# Altium footprint library LPSON_CON.PcbLib: 86 footprints (part 1 of 6)
Each footprint in its own frame and in the unit in brackets; x right, y up, seen from the top. Pads: shape width x height; smd on the part's side, far side on the other; paste and mask are expansions set on the pad; w line width, h text height; cw(c..) or ccw(c..) is an arc to the next point about the centre after c.
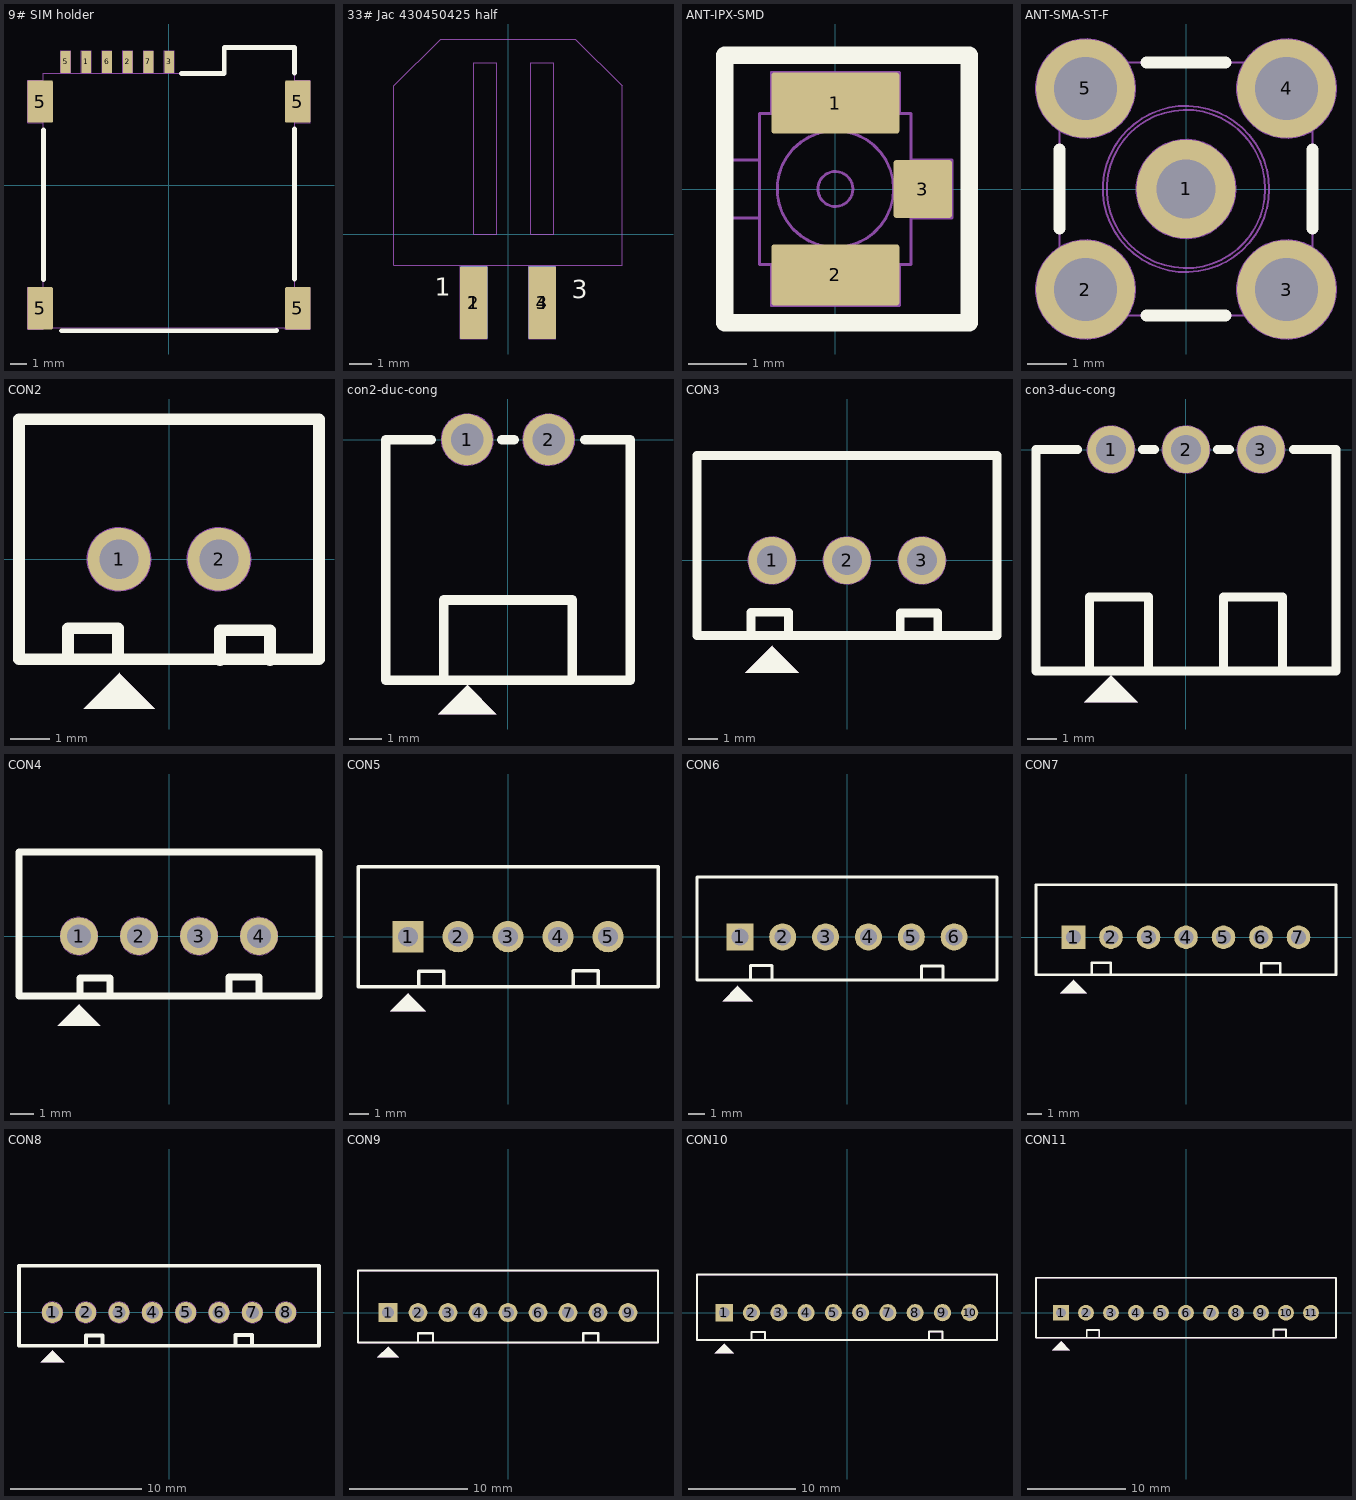
[diagram p0: the footprints below, top view; thin cyan lines are the x and y axes]

## 9# SIM holder [mm] "Micro SIM Push Connector SIM Card Connector with 6 Pin 1.35H"
height 1.35
pads (10):
  rrect10% 0.6x1.35 smd mask+0.1: 1(-5.07,7.553) 2(-2.53,7.553) 3(0.01,7.553) 5(-6.34,7.553) 6(-3.8,7.553) 7(-1.26,7.553)
  rrect10% 1.55x2.6 smd mask+0.1: 5(-7.9,-7.553) 5(-7.9,5.127) 5(7.9,-7.553) 5(7.9,5.127)
Top Overlay:
  lines w0.3: -7.7,-5.79 -7.7,3.4 ; -6.594,-8.934 6.596,-8.924 ; 0.75,6.85 3.39,6.85 3.39,8.45 7.7,8.45 7.7,6.87 ; 7.7,-5.76 7.7,3.45
Mechanical 2:
  lines w0.05: -7.7,-8.852 -8.675,-8.852 ; -7.7,-8.847 -7.7,-8.74 ; -7.7,-6.252 -8.675,-6.252 ; -7.7,3.828 -8.675,3.828 -8.675,6.428 -7.7,6.428 ; -5.37,6.86 -5.37,8.228 -4.77,8.228 -4.77,6.86 ; -4.1,6.86 -4.1,8.228 -3.5,8.228 -3.5,6.86 ; -2.83,6.86 -2.83,8.228 -2.23,8.228 -2.23,6.86 ; -1.56,6.86 -1.56,8.228 -0.96,8.228 -0.96,6.86 ; -0.29,6.86 -0.29,8.228 0.31,8.228 0.31,6.86 ; 7.125,-8.74 7.125,-8.852 8.675,-8.852 8.675,-6.252 7.7,-6.252 ; 7.7,3.828 8.675,3.828 8.675,6.428 7.7,6.428 ; -8.675,-8.852 -8.675,-6.252 ; -8.675,-8.852 -8.675,-6.252 ; -8.675,-8.852 -8.675,-6.252 ; -7.7,-8.74 7.7,-8.74 7.7,8.46 3.39,8.46 3.39,6.86 -7.7,6.86 -7.7,-8.74 ; -6.64,6.86 -6.64,8.228 ; -6.64,6.86 -6.64,8.228 ; -6.64,6.86 -6.04,6.86 ; -6.64,8.228 -6.04,8.228 ; -6.64,8.228 -6.04,8.228 ; -6.04,6.86 -6.04,8.228 ; -6.04,6.86 -6.04,8.228
  text "GND" at 8.371,4.742 h0.3
  text "GND" at 8.371,-7.86 h0.3
  text "GND" at -8.063,-7.86 h0.3
  text "GND" at -8.063,4.742 h0.3
  text "5" at -6.44,7.337 h0.3
  text "3" at -0.075,7.332 h0.3
  text "7" at -1.32,7.33 h0.3
  text "2" at -2.619,7.333 h0.3
  text "6" at -3.91,7.332 h0.3
  text "1" at -5.13,7.33 h0.3
3D body "User Library-Sim Holder.step": height 1.35, standoff 0, extent -8.2,-8.9 8.2,8.3

## 33# Jac 430450425 half [mm]
pads (4):
  rrect10% 1.2x3.18 smd: 1(-1.5,-3) 3(1.5,-3)
  rrect10% 1.2x3.18 smd far side: 2(-1.5,-3) 4(1.5,-3)
Top Overlay:
  text "3" at 2.8,-2.8 h0.8
  text "1" at -3.2,-2.7 h0.8
Bottom Overlay:
  text "4" at 3.36,-2.82 h0.8
  text "2" at -2.888,-2.69 h0.8
Mechanical 2:
  lines w0.05: -5,0 -5,-1.35 ; -5,-1.35 -3.69,-1.35 ; -5,-1.35 -5,-0.04 ; -5,-1.35 -3.69,-1.35 ; -5,-0.04 -5,6.5 ; -5,-0.04 -5,6.5 ; -5,-0.04 -5,6.5 ; -5,-0.04 -5,6.5 ; -5,6.5 -2.95,8.55 ; -5,6.5 -2.95,8.55 ; -5,6.5 -2.95,8.55 ; -5,6.5 -2.95,8.55 ; -3.69,-1.35 3.68,-1.35 ; -3.69,-1.35 3.68,-1.35 ; -3.69,-1.35 3.68,-1.35 ; -3.69,-1.35 3.68,-1.35 ; -2.95,8.55 2.95,8.55 ; -2.95,8.55 2.95,8.55 ; -2.95,8.55 2.95,8.55 ; -2.95,8.55 2.95,8.55 ; -2.1,-4.59 -0.91,-4.59 ; -2.1,-4.59 -0.91,-4.59 ; -2.1,-4.59 -2.1,-1.35 ; -2.1,-4.59 -2.1,-1.35 ; -2.1,-4.59 -2.1,-1.35 ; -2.1,-4.59 -0.91,-4.59 ; -2.1,-4.59 -0.91,-4.59 ; -2.1,-4.59 -2.1,-1.35 ; -1.5,0 -1.5,7.5 ; -1.5,0 -1.5,7.5 ; -1.5,0 -0.5,0 ; -1.5,0 -0.5,0 ; -1.5,0 -1.5,7.5 ; -1.5,0 -0.5,0 ; -1.5,0 -0.5,0 ; -1.5,0 -1.5,7.5 ; -1.5,7.5 -0.5,7.5 ; -1.5,7.5 -0.5,7.5 ; -1.5,7.5 -0.5,7.5 ; -1.5,7.5 -0.5,7.5 ; -0.91,-4.59 -0.91,-1.35 ; -0.91,-4.59 -0.91,-1.35 ; -0.91,-4.59 -0.91,-1.35 ; -0.91,-4.59 -0.91,-1.35 ; -0.5,0 -0.5,7.5 ; -0.5,0 -0.5,7.5 ; -0.5,0 -0.5,7.5 ; -0.5,0 -0.5,7.5 ; 0.9,-4.59 2.09,-4.59 ; 0.9,-4.59 2.09,-4.59 ; 0.9,-4.59 0.9,-1.35 ; 0.9,-4.59 0.9,-1.35 ; 0.9,-4.59 2.09,-4.59 ; 0.9,-4.59 0.9,-1.35 ; 0.9,-4.59 0.9,-1.35 ; 0.9,-4.59 2.09,-4.59 ; 1,0 1,7.5 ; 1,0 1,7.5 ; 1,0 2,0 ; 1,0 2,0 ; 1,0 2,0 ; 1,0 1,7.5 ; 1,0 1,7.5 ; 1,0 2,0 ; 1,7.5 2,7.5 ; 1,7.5 2,7.5 ; 1,7.5 2,7.5 ; 1,7.5 2,7.5 ; 2,0 2,7.5 ; 2,0 2,7.5 ; 2,0 2,7.5 ; 2,0 2,7.5 ; 2.09,-4.59 2.09,-1.35 ; 2.09,-4.59 2.09,-1.35 ; 2.09,-4.59 2.09,-1.35 ; 2.09,-4.59 2.09,-1.35 ; 2.95,8.55 5,6.5 ; 2.95,8.55 5,6.5 ; 2.95,8.55 5,6.5 ; 2.95,8.55 5,6.5 ; 3.68,-1.35 5,-1.35 ; 3.68,-1.35 5,-1.35 ; 5,-1.35 5,-0.03 ; 5,-1.35 5,-0.03 ; 5,-0.03 5,6.5 ; 5,-0.03 5,6.5 ; 5,-0.03 5,6.5 ; 5,-0.03 5,6.5
  text "4" at 1.3,-1.1 h0.8
  text "2" at -1.8,-1.1 h0.8
  text "1" at -1.6,-1.1 h0.8
  text "3" at 1.3,-1.1 h0.8
  text "3" at 1.3,-1.1 h0.8
  text "1" at -1.6,-1.1 h0.8
3D body "430450425.stp": height 3.24, standoff -5.53, extent -5.075,-4.84 5.075,8.25

## ANT-IPX-SMD [mm] "0­6GHz GSM,  GPRS & CDMA mobile Phones"
height 1.25
pads (3):
  rrect10% 2.2x1.05 smd mask+0.1: 1(0,1.475) 2(0,-1.475)
  rrect10% 1x1 smd mask+0.1: 3(1.5,0)
Top Overlay:
  lines w0.3: -1.9,-2.3 -1.9,2.3 2.3,2.3 2.3,-2.3 -1.9,-2.3
Mechanical 1:
  circle w0.05: c0,0 r0.3
  circle w0.05: c0,0 r1
  lines w0.05: -1.3,-0.5 -1.8,-0.5 -1.8,0.5 -1.3,0.5 ; -1.3,-1.295 -1.3,1.295 1.3,1.295 1.3,-1.295 -1.3,-1.295 ; -1.1,-2 1.1,-2 1.1,-1.295 -1.1,-1.295 -1.1,-2 ; -1.1,1.295 -1.1,2 1.1,2 1.1,1.295 -1.1,1.295 ; 1.3,-0.5 1.3,0.5 2,0.5 2,-0.5 1.3,-0.5
  text "ANT?" at 0,0 h0.5

## ANT-SMA-ST-F [mm] "SMA Straight PCB Female Connector 50 ohm"
height 9.5
pads (5):
  round 2.5 hole 1.5 mask+0.1: 1(0,0)
  round 2.5 hole 1.6 mask+0.1: 2(-2.54,-2.54) 3(2.54,-2.54) 4(2.54,2.54) 5(-2.54,2.54)
Top Overlay:
  lines w0.3: -3.2,-1 -3.2,1 ; -1,-3.2 1,-3.2 ; -1,3.2 1,3.2 ; 3.2,-1 3.2,1
Mechanical 2:
  circle w0.05: c0,0 r2
  circle w0.05: c0,0 r2.1
  circle w0.05: c0,0 r1.25
  circle w0.05: c0,0 r0.5
  circle w0.05: c2.54,2.54 r1.25
  circle w0.05: c2.54,-2.54 r1.25
  circle w0.05: c-2.54,2.54 r1.25
  circle w0.05: c-2.54,-2.54 r1.25
  lines w0.05: -3.2,-3.2 3.2,-3.2 3.2,3.2 -3.2,3.2 -3.2,-3.2
3D body "r125426000.stp": height 11.93, standoff -1.69, extent -3.2,-3.155 3.11,3.155

## CON2 [mm] "CON2"
height 5.08
pads (2):
  round 1.6 hole 1 mask+0.1: 1(-1.27,0) 2(1.27,0)
Top Overlay:
  region: -2.172,-3.797 -0.368,-3.797 -1.257,-2.908 -1.257,-2.883
  lines w0.3: -2.565,-2.515 -2.565,-1.753 -1.295,-1.753 -1.295,-2.515 ; 1.295,-2.565 1.295,-1.803 2.565,-1.803 2.565,-2.565 ; -3.81,-2.54 3.81,-2.54 3.81,3.556 -3.81,3.556 -3.81,-2.54
Mechanical 2:
  circle w0.05: c1.27,0 r0.8
  circle w0.05: c-1.27,0 r0.8
  region: -2.172,-3.797 -0.368,-3.797 -1.257,-2.908 -1.257,-2.883
  lines w0.05: -2.565,-2.515 -2.565,-1.753 -1.295,-1.753 -1.295,-2.515 ; 1.295,-2.565 1.295,-1.803 2.565,-1.803 2.565,-2.565 ; -3.81,-2.54 -3.81,3.556 3.81,3.556 3.81,-2.54 -3.81,-2.54
  text "1" at -1.4,-0.5 h1
  text "2" at 1,-0.5 h1
3D body "User Library-PW10_2.step": height 7, standoff -3.3, extent -3.75,-2.286 3.75,3.414

## con2-duc-cong [mm]
pads (2):
  round 1.6 hole 1 mask+0.1: 1(-1.27,0) 2(1.27,0)
Top Overlay:
  region: -2.172,-8.553 -0.368,-8.553 -1.257,-7.664 -1.257,-7.639
  lines w0.3: -2.4,0 -3.81,0 -3.81,-7.5 3.81,-7.5 3.81,0 2.4,0 ; -2,-7.5 -2,-5 2,-5 2,-7.5 ; -0.2,0 0.2,0
Mechanical 2:
  circle w0.05: c1.27,0 r0.8
  circle w0.05: c-1.27,0 r0.8
  region: -2.172,-8.553 -0.368,-8.553 -1.257,-7.664 -1.257,-7.639
  lines w0.05: -2.4,0 -3.81,0 -3.81,-7.5 3.81,-7.5 3.81,0 2.4,0 ; -2,-7.5 -2,-5 2,-5 2,-7.5 ; -0.2,0 0.2,0
  text "1" at -1.4,-0.5 h1
  text "2" at 1,-0.5 h1
3D body "User Library-S XH-A.step": height 6.1, standoff -2, extent -3.6,-8.95 3.8,2.55

## CON3 [mm] "CON 3"
height 5.08
pads (3):
  round 1.6 hole 1 mask+0.1: 1(-2.54,0) 2(0,0) 3(2.54,0)
Top Overlay:
  region: -3.442,-3.797 -1.638,-3.797 -2.527,-2.908 -2.527,-2.883
  lines w0.3: -3.251,-2.515 -3.251,-1.753 -1.981,-1.753 -1.981,-2.515 ; 1.803,-2.54 1.803,-1.778 3.073,-1.778 3.073,-2.54 ; -5.08,-2.54 -5.08,3.556 5.08,3.556 5.08,0 5.08,-2.54 -5.08,-2.54
Mechanical 2:
  circle w0.05: c-2.54,0 r0.8
  circle w0.05: c2.54,0 r0.8
  circle w0.05: c0,0 r0.8
  region: -3.442,-3.797 -1.638,-3.797 -2.527,-2.908 -2.527,-2.883
  lines w0.05: -3.251,-2.515 -3.251,-1.753 -1.981,-1.753 -1.981,-2.515 ; 1.803,-2.54 1.803,-1.778 3.073,-1.778 3.073,-2.54 ; -5.08,-2.54 -5.08,3.556 5.08,3.556 5.08,0 5.08,-2.54 -5.08,-2.54
  text "1" at -2.7,-0.5 h1
  text "3" at 2.2,-0.5 h1
3D body "User Library-PW10_3.step": height 7, standoff -3.3, extent -5,-2.286 5,3.414

## con3-duc-cong [mm]
pads (3):
  round 1.6 hole 1 mask+0.1: 1(-2.54,0) 2(0,0) 3(2.54,0)
Top Overlay:
  region: -3.442,-8.553 -1.638,-8.553 -2.527,-7.664 -2.527,-7.639
  lines w0.3: -3.67,0 -5.08,0 -5.08,-7.5 5.08,-7.5 5.08,0 3.63,0 ; -3.27,-7.5 -3.27,-5 -1.27,-5 -1.27,-7.5 ; -1.47,0 -1.07,0 ; 1.07,0 1.47,0 ; 1.27,-7.5 1.27,-5 3.27,-5 3.27,-7.5
Mechanical 2:
  circle w0.05: c2.54,0 r0.8
  circle w0.05: c-2.54,0 r0.8
  circle w0.05: c0,0 r0.8
  region: -3.442,-8.553 -1.638,-8.553 -2.527,-7.664 -2.527,-7.639
  region: -3.442,-8.553 -1.638,-8.553 -2.527,-7.664 -2.527,-7.639
  lines w0.05: -3.67,0 -5.08,0 -5.08,-7.5 5.08,-7.5 5.08,0 3.63,0 ; -3.27,-7.5 -3.27,-5 -1.27,-5 -1.27,-7.5 ; -1.47,0 -1.07,0 ; 1.07,0 1.47,0 ; 1.27,-7.5 1.27,-5 3.27,-5 3.27,-7.5
  text "3" at 2.3,-0.5 h1
  text "2" at -0.27,-0.5 h1
  text "1" at -2.67,-0.5 h1
3D body "User Library-S XH-A (1).step": height 6.1, standoff -2, extent -4.9,-8.95 5,2.55

## CON4 [mm] "CON4"
height 5.08
pads (4):
  round 1.6 hole 1 mask+0.1: 1(-3.81,0) 2(-1.27,0) 3(1.27,0) 4(3.81,0)
Top Overlay:
  region: -4.712,-3.797 -2.908,-3.797 -3.797,-2.908 -3.797,-2.883
  lines w0.3: -3.759,-2.54 -3.759,-1.778 -2.489,-1.778 -2.489,-2.54 ; 2.54,-2.489 2.54,-1.727 3.81,-1.727 3.81,-2.489 ; -6.35,-2.54 6.35,-2.54 6.35,0 6.35,3.556 -6.35,3.556 -6.35,-2.54
Mechanical 2:
  circle w0.05: c-1.27,0 r0.8
  circle w0.05: c1.27,0 r0.8
  circle w0.05: c3.81,0 r0.8
  circle w0.05: c-3.81,0 r0.8
  region: -4.712,-3.797 -2.908,-3.797 -3.797,-2.908 -3.797,-2.883
  lines w0.05: -3.759,-2.54 -3.759,-1.778 -2.489,-1.778 -2.489,-2.54 ; 2.54,-2.489 2.54,-1.727 3.81,-1.727 3.81,-2.489 ; -6.35,-2.54 6.35,-2.54 6.35,0 6.35,3.556 -6.35,3.556 -6.35,-2.54
  text "4" at 3.4,-0.5 h1
  text "1" at -3.9,-0.5 h1
3D body "User Library-PW10_4.step": height 7, standoff -3.3, extent -6.25,-2.286 6.25,3.414

## CON5 [mm] "CON5"
height 5.08
pads (5):
  rect 1.6x1.6 hole 1 mask+0.1: 1(-5.08,0)
  round 1.6 hole 1 mask+0.1: 2(-2.54,0) 3(0,0) 4(2.54,0) 5(5.08,0)
Top Overlay:
  region: -5.982,-3.797 -4.178,-3.797 -5.067,-2.908 -5.067,-2.883
  lines w0.178: -4.547,-2.515 -4.547,-1.753 -3.277,-1.753 -3.277,-2.515 ; 3.302,-2.489 3.302,-1.727 4.572,-1.727 4.572,-2.489 ; -7.62,-2.54 -7.62,3.556 7.62,3.556 7.62,0 7.62,-2.54 -7.62,-2.54
Mechanical 1:
  region: -5.982,-3.797 -4.178,-3.797 -5.067,-2.908 -5.067,-2.883
  lines w0.05: -4.547,-2.515 -4.547,-1.753 -3.277,-1.753 -3.277,-2.515 ; 3.302,-2.489 3.302,-1.727 4.572,-1.727 4.572,-2.489 ; -7.62,-2.54 -7.62,3.556 7.62,3.556 7.62,0 7.62,-2.54 -7.62,-2.54
3D body "User Library-PW10_5.step": height 7, standoff -3.3, extent -7.5,-2.271 7.5,3.429

## CON6 [mm] "CON6"
height 5.08
pads (6):
  rect 1.6x1.6 hole 1 mask+0.1: 1(-6.35,0)
  round 1.6 hole 1 mask+0.1: 2(-3.81,0) 3(-1.27,0) 4(1.27,0) 5(3.81,0) 6(6.35,0)
Top Overlay:
  region: -7.379,-3.797 -5.575,-3.797 -6.464,-2.908 -6.464,-2.883
  lines w0.178: -5.715,-2.464 -5.715,-1.702 -4.445,-1.702 -4.445,-2.464 ; 4.42,-2.489 4.42,-1.727 5.69,-1.727 5.69,-2.489 ; -8.89,-2.54 8.89,-2.54 8.89,0 8.89,3.556 -8.89,3.556 -8.89,-2.54
Mechanical 1:
  region: -7.379,-3.797 -5.575,-3.797 -6.464,-2.908 -6.464,-2.883
  lines w0.05: -5.715,-2.464 -5.715,-1.702 -4.445,-1.702 -4.445,-2.464 ; 4.42,-2.489 4.42,-1.727 5.69,-1.727 5.69,-2.489 ; -8.89,-2.54 -8.89,3.556 8.89,3.556 8.89,0 8.89,-2.54 -8.89,-2.54
3D body "User Library-PW10_6.step": height 7, standoff -3.3, extent -8.75,-2.286 8.75,3.414

## CON7 [mm] "CON7"
height 5.08
pads (7):
  rect 1.6x1.6 hole 1 mask+0.1: 1(-7.62,0)
  round 1.6 hole 1 mask+0.1: 2(-5.08,0) 3(-2.54,0) 4(0,0) 5(2.54,0) 6(5.08,0) 7(7.62,0)
Top Overlay:
  region: -8.522,-3.797 -6.718,-3.797 -7.607,-2.908 -7.607,-2.883
  lines w0.178: -6.375,-2.489 -6.375,-1.727 -5.105,-1.727 -5.105,-2.489 ; 5.105,-2.515 5.105,-1.753 6.375,-1.753 6.375,-2.515 ; -10.16,-2.54 10.16,-2.54 10.16,0 10.16,3.556 -10.16,3.556 -10.16,-2.54
Mechanical 1:
  region: -8.522,-3.797 -6.718,-3.797 -7.607,-2.908 -7.607,-2.883
  lines w0.05: -6.375,-2.489 -6.375,-1.727 -5.105,-1.727 -5.105,-2.489 ; 5.105,-2.515 5.105,-1.753 6.375,-1.753 6.375,-2.515 ; -10.16,-2.54 -10.16,3.556 10.16,3.556 10.16,0 10.16,-2.54 -10.16,-2.54
3D body "User Library-PW10_7.step": height 7, standoff -3.3, extent -10.05,-2.286 10.05,3.414

## CON8 [mm] "CON8"
height 5.08
pads (8):
  round 1.6 hole 1 mask+0.1: 1(-8.89,0) 2(-6.35,0) 3(-3.81,0) 4(-1.27,0) 5(1.27,0) 6(3.81,0) 7(6.35,0) 8(8.89,0)
Top Overlay:
  region: -9.792,-3.797 -7.988,-3.797 -8.877,-2.908 -8.877,-2.883
  lines w0.3: -6.325,-2.515 -6.325,-1.753 -5.055,-1.753 -5.055,-2.515 ; 5.055,-2.489 5.055,-1.727 6.325,-1.727 6.325,-2.489 ; -11.43,-2.54 -11.43,3.556 11.43,3.556 11.43,0 11.43,-2.54 -11.43,-2.54
Mechanical 1:
  circle w0.05: c-8.89,0 r0.8
  circle w0.05: c-6.35,0 r0.8
  circle w0.05: c-3.81,0 r0.8
  circle w0.05: c-1.27,0 r0.8
  circle w0.05: c1.27,0 r0.8
  circle w0.05: c3.81,0 r0.8
  circle w0.05: c6.35,0 r0.8
  circle w0.05: c8.89,0 r0.8
  region: -9.792,-3.797 -7.988,-3.797 -8.877,-2.908 -8.877,-2.883
  lines w0.05: -6.325,-2.515 -6.325,-1.753 -5.055,-1.753 -5.055,-2.515 ; 5.055,-2.489 5.055,-1.727 6.325,-1.727 6.325,-2.489 ; -11.43,-2.54 11.43,-2.54 11.43,0 11.43,3.556 -11.43,3.556 -11.43,-2.54
  text "1" at -9,-0.4 h1
  text "8" at 8.6,-0.5 h1
  text "CN?" at 0.05,0.05 h0.8
3D body "User Library-PW10_8.step": height 7, standoff -3.3, extent -11.3,-2.286 11.3,3.414

## CON9 [mm] "CON9"
height 5.08
pads (9):
  rect 1.6x1.6 hole 1 mask+0.1: 1(-10.16,0)
  round 1.6 hole 1 mask+0.1: 2(-7.62,0) 3(-5.08,0) 4(-2.54,0) 5(0,0) 6(2.54,0) 7(5.08,0) 8(7.62,0) 9(10.16,0)
Top Overlay:
  region: -11.062,-3.797 -9.258,-3.797 -10.147,-2.908 -10.147,-2.883
  lines w0.178: -7.62,-2.515 -7.62,-1.753 -6.35,-1.753 -6.35,-2.515 ; 6.375,-2.515 6.375,-1.753 7.645,-1.753 7.645,-2.515 ; -12.7,-2.54 12.7,-2.54 12.7,0 12.7,3.556 -12.7,3.556 -12.7,-2.54
Mechanical 1:
  region: -11.062,-3.797 -9.258,-3.797 -10.147,-2.908 -10.147,-2.883
  lines w0.05: -7.62,-2.515 -7.62,-1.753 -6.35,-1.753 -6.35,-2.515 ; 6.375,-2.515 6.375,-1.753 7.645,-1.753 7.645,-2.515 ; -12.7,-2.54 -12.7,3.556 12.7,3.556 12.7,0 12.7,-2.54 -12.7,-2.54
3D body "User Library-PW10_9.step": height 7, standoff -3.3, extent -12.55,-2.286 12.55,3.414

## CON10 [mm] "CON10"
height 5.08
pads (10):
  rect 1.6x1.6 hole 1 mask+0.1: 1(-11.43,0)
  round 1.6 hole 1 mask+0.1: 2(-8.89,0) 3(-6.35,0) 4(-3.81,0) 5(-1.27,0) 6(1.27,0) 7(3.81,0) 8(6.35,0) 9(8.89,0) 10(11.43,0)
Top Overlay:
  region: -12.332,-3.797 -10.528,-3.797 -11.417,-2.908 -11.417,-2.883
  lines w0.178: -8.89,-2.54 -8.89,-1.778 -7.62,-1.778 -7.62,-2.54 ; 7.62,-2.515 7.62,-1.753 8.89,-1.753 8.89,-2.515 ; -13.97,-2.54 -13.97,3.556 13.97,3.556 13.97,0 13.97,-2.54 -13.97,-2.54
Mechanical 1:
  region: -12.332,-3.797 -10.528,-3.797 -11.417,-2.908 -11.417,-2.883
  lines w0.05: -8.89,-2.54 -8.89,-1.778 -7.62,-1.778 -7.62,-2.54 ; 7.62,-2.515 7.62,-1.753 8.89,-1.753 8.89,-2.515 ; -13.97,-2.54 13.97,-2.54 13.97,0 13.97,3.556 -13.97,3.556 -13.97,-2.54
3D body "User Library-PW10_10.step": height 7, standoff -3.3, extent -13.8,-2.286 13.8,3.414

## CON11 [mm] "CON11"
height 5.08
pads (11):
  rect 1.6x1.6 hole 1 mask+0.1: 1(-12.7,0)
  round 1.6 hole 1 mask+0.1: 2(-10.16,0) 3(-7.62,0) 4(-5.08,0) 5(-2.54,0) 6(0,0) 7(2.54,0) 8(5.08,0) 9(7.62,0) 10(10.16,0) 11(12.7,0)
Top Overlay:
  region: -13.602,-3.797 -11.798,-3.797 -12.687,-2.908 -12.687,-2.883
  lines w0.178: -10.084,-2.515 -10.084,-1.753 -8.814,-1.753 -8.814,-2.515 ; 8.89,-2.464 8.89,-1.702 10.16,-1.702 10.16,-2.464 ; -15.24,-2.54 15.24,-2.54 15.24,0 15.24,3.556 -15.24,3.556 -15.24,-2.54
Mechanical 1:
  region: -13.602,-3.797 -11.798,-3.797 -12.687,-2.908 -12.687,-2.883
  lines w0.05: -10.084,-2.515 -10.084,-1.753 -8.814,-1.753 -8.814,-2.515 ; 8.89,-2.464 8.89,-1.702 10.16,-1.702 10.16,-2.464 ; -15.24,-2.54 -15.24,3.556 15.24,3.556 15.24,0 15.24,-2.54 -15.24,-2.54
3D body "User Library-PW10_11.step": height 7, standoff -3.3, extent -15.05,-2.286 15.05,3.414